# Altium footprint library lianchen_lib.PcbLib: 233 footprints (part 5 of 15)
Each footprint in its own frame and in the unit in brackets; x right, y up, seen from the top. Pads: shape width x height; smd on the part's side, far side on the other; paste and mask are expansions set on the pad; w line width, h text height; cw(c..) or ccw(c..) is an arc to the next point about the centre after c.
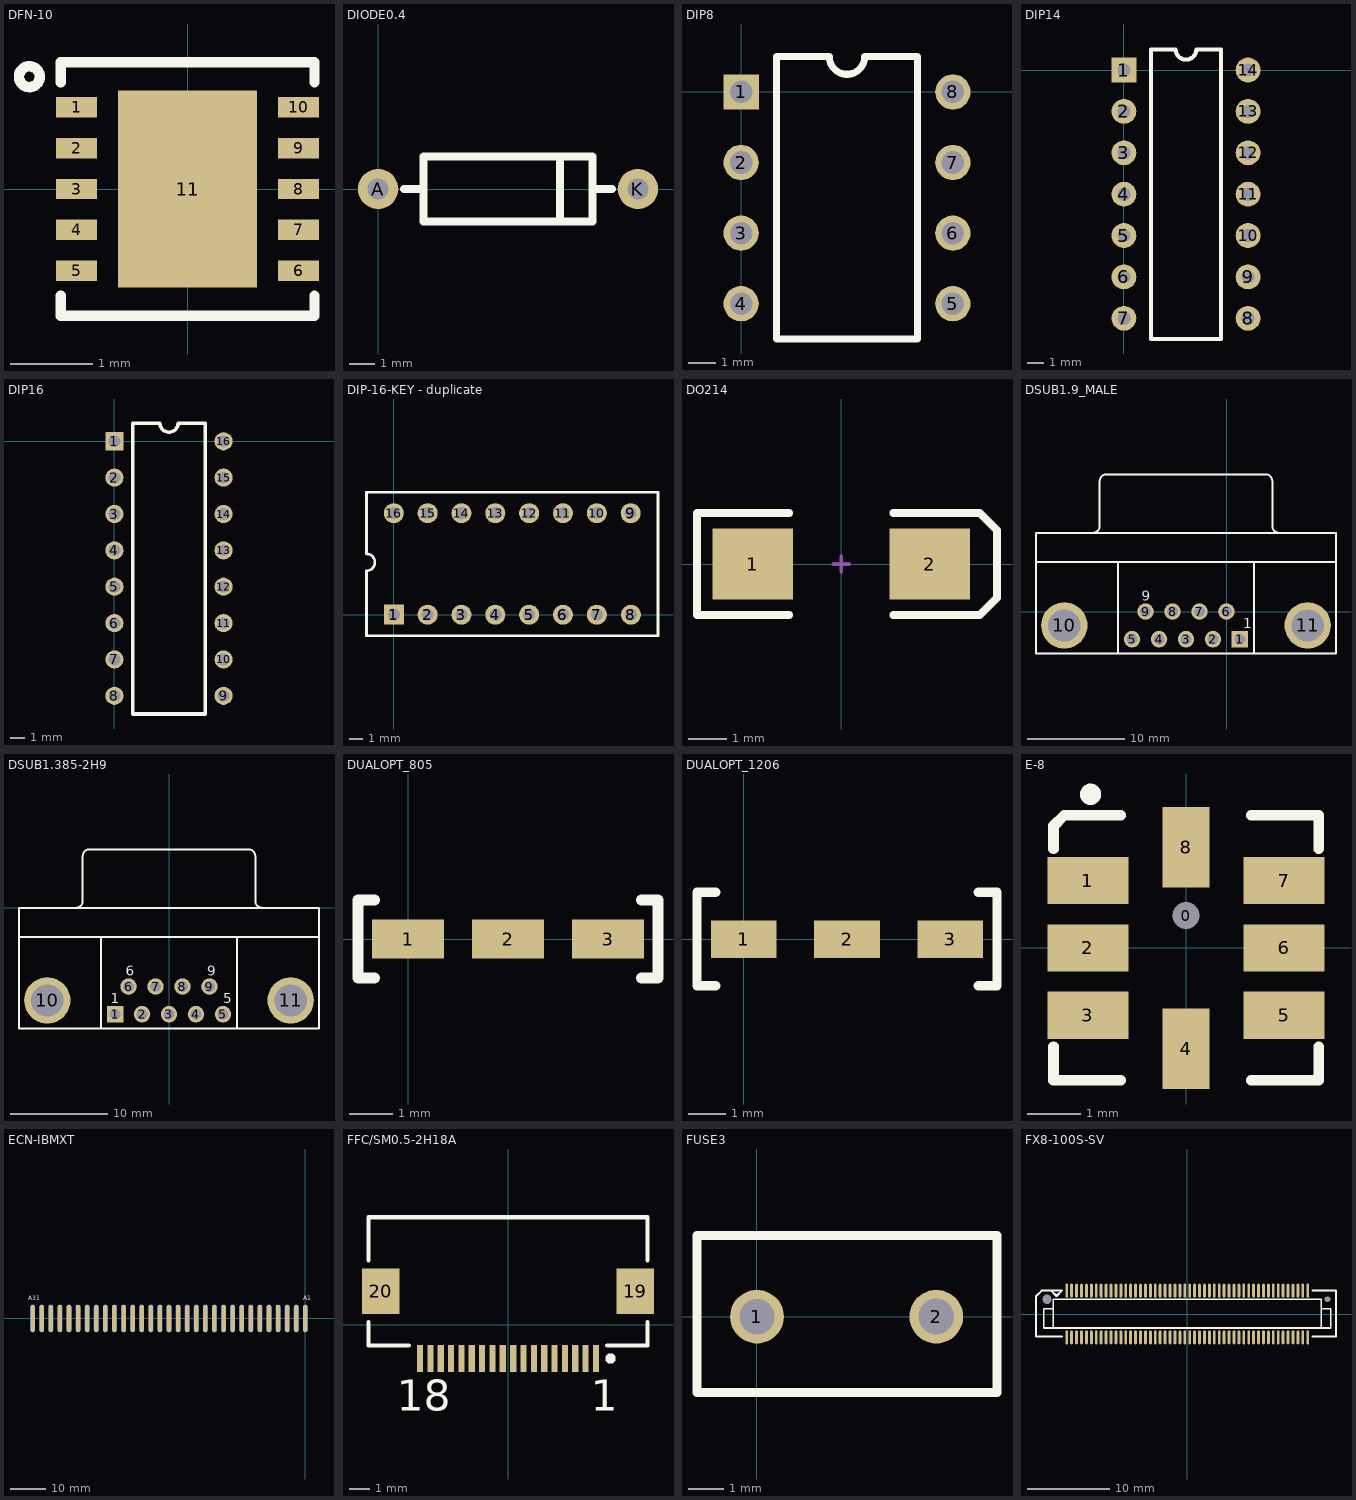
[diagram p4: the footprints below, top view; thin cyan lines are the x and y axes]

## DFN-10 [mm]
height 0.8
pads (11):
  rect 0.5x0.25 smd: 1(-1.355,1) 2(-1.355,0.5) 3(-1.355,0) 4(-1.355,-0.5) 5(-1.355,-1) 6(1.355,-1) 7(1.355,-0.5) 8(1.355,0) 9(1.355,0.5) 10(1.355,1)
  rect 1.7x2.4 smd: 11(0,0)
Top Overlay:
  circle w0.127: c-1.931,1.371 r0.127
  lines w0.127: -1.55,-1.3 -1.55,-1.55 1.55,-1.55 1.55,-1.3 ; -1.55,1.3 -1.55,1.55 1.55,1.55 1.55,1.3

## DIODE0.4 [mil]
pads (2):
  round 62 hole 32: A(0,0) K(400,0)
Top Overlay:
  lines w12: 40,0 70,0 ; 280,-50 280,50 ; 330,0 360,0 ; 70,-50 70,50 330,50 330,-50 70,-50

## DIP8 [mil]
pads (8):
  rect 50x50 hole 32: 1(0,0)
  round 50 hole 32: 2(0,-100) 3(0,-200) 4(0,-300) 5(300,-300) 6(300,-200) 7(300,-100) 8(300,0)
Top Overlay:
  lines w10: 50,-350 250,-350 250,50 175,50 cw(c150,50) 125,50 50,50 50,-350

## DIP14 [mil]
height 200
pads (14):
  rect 60x60 hole 32: 1(0,0)
  round 60 hole 32: 2(0,-100) 3(0,-200) 4(0,-300) 5(0,-400) 6(0,-500) 7(0,-600) 8(300,-600) 9(300,-500) 10(300,-400) 11(300,-300) 12(300,-200) 13(300,-100) 14(300,0)
Top Overlay:
  lines w10: 65,-650 65,50 125,50 ccw(c150,50) 175,50 235,50 235,-650 65,-650

## DIP16 [mil]
pads (16):
  rect 50x50 hole 32: 1(0,0)
  round 50 hole 32: 2(0,-100) 3(0,-200) 4(0,-300) 5(0,-400) 6(0,-500) 7(0,-600) 8(0,-700) 9(300,-700) 10(300,-600) 11(300,-500) 12(300,-400) 13(300,-300) 14(300,-200) 15(300,-100) 16(300,0)
Top Overlay:
  lines w10: 50,-750 50,50 125,50 ccw(c150,50) 175,50 250,50 250,-750 50,-750

## DIP-16-KEY - duplicate [mm]
pads (16):
  rect 1.5x1.5 hole 0.9: 1(-0.011,0.001)
  round 1.5 hole 0.9: 2(2.529,0.001) 3(5.069,0.001) 4(7.609,0.001) 5(10.149,0.001) 6(12.689,0.001) 7(15.229,0.001) 8(17.789,0.001) 9(17.769,7.621) 10(15.229,7.621) 11(12.689,7.621) 12(10.149,7.621) 13(7.609,7.621) 14(5.069,7.621) 15(2.529,7.621) 16(-0.011,7.621)
Top Overlay:
  lines w0.2: -2.061,4.571 cw(c-2.061,3.936) -2.061,3.301 -2.061,-1.589 19.819,-1.589 19.819,9.201 -2.061,9.201 -2.061,4.601
3D body: height 6.35, standoff 0, extent -2.032,-1.524 19.812,9.144
3D body: height 7.11, standoff 0, extent -0.508,4.064 0.508,6.096
3D body: height 6.48, standoff 0, extent -0.508,1.524 0.508,4.064
3D body: height 6.48, standoff 0, extent 4.572,1.524 5.588,4.064
3D body: height 7.11, standoff 0, extent 4.572,4.064 5.588,6.096
3D body: height 6.48, standoff 0, extent 7.112,1.524 8.128,4.064
3D body: height 7.11, standoff 0, extent 7.112,4.064 8.128,6.096
3D body: height 6.48, standoff 0, extent 14.732,1.524 15.748,4.064
3D body: height 7.11, standoff 0, extent 14.732,4.064 15.748,6.096
3D body: height 6.48, standoff 0, extent 2.032,3.556 3.048,6.096
3D body: height 7.11, standoff 0, extent 2.032,1.524 3.048,3.556
3D body: height 6.48, standoff 0, extent 9.652,3.556 10.668,6.096
3D body: height 7.11, standoff 0, extent 9.652,1.524 10.668,3.556
3D body: height 6.48, standoff 0, extent 12.192,3.556 13.208,6.096
3D body: height 7.11, standoff 0, extent 12.192,1.524 13.208,3.556
3D body: height 6.48, standoff 0, extent 17.272,3.556 18.288,6.096
3D body: height 7.11, standoff 0, extent 17.272,1.524 18.288,3.556

## DO214 [mm]
pads (2):
  rect 2.1x1.85 smd: 1(-2.3,0) 2(2.3,0)
Top Overlay:
  lines w0.2: -1.35,-1.325 -3.75,-1.325 -3.75,1.325 -1.35,1.325 ; 1.35,-1.325 3.6,-1.325 4.05,-0.875 4.05,0.875 3.6,1.325 1.35,1.325
Mechanical 1:
  lines w0.1: -0.2,0 0.2,0 ; 0,-0.2 0,0.2

## DSUB1.9_MALE [mm]
pads (11):
  rect 1.69x1.69 hole 1.1: 1(1.382,-2.843)
  round 1.69 hole 1.1: 2(-1.388,-2.843) 3(-4.158,-2.843) 4(-6.928,-2.843) 5(-9.698,-2.843) 6(-0.003,-0.003) 7(-2.773,-0.003) 8(-5.543,-0.003) 9(-8.313,-0.003)
  round 4.76 hole 3.3: 10(-16.653,-1.423) 11(8.337,-1.423)
Top Overlay:
  lines w0.2: -19.558,5.077 11.242,5.077 ; -13.718,8.082 ccw(c-13.718,8.777) -13.023,8.777 -13.023,13.377 ; -13.018,13.382 cw(c-12.323,13.382) -12.323,14.077 4.007,14.077 cw(c4.007,13.382) 4.702,13.382 ; -11.158,-4.323 -11.158,5.077 ; 2.842,-4.323 2.842,5.077 ; 4.707,13.377 4.707,8.777 ccw(c5.402,8.777) 5.402,8.082 ; -19.558,-4.323 -19.558,8.077 11.242,8.077 11.242,-4.323 -19.558,-4.323
  text "1" at 1.702,-1.702 h1
  text "9" at -8.712,1.092 h1

## DSUB1.385-2H9 [mm]
pads (11):
  rect 1.69x1.69 hole 1.1: 1(-5.54,-10.92)
  round 1.69 hole 1.1: 2(-2.77,-10.92) 3(0,-10.92) 4(2.77,-10.92) 5(5.54,-10.92) 6(-4.155,-8.08) 7(-1.385,-8.08) 8(1.385,-8.08) 9(4.155,-8.08)
  round 4.76 hole 3.3: 10(-12.495,-9.5) 11(12.495,-9.5)
Top Overlay:
  lines w0.2: -15.4,-3 15.4,-3 ; -9.56,0.005 ccw(c-9.56,0.7) -8.865,0.7 -8.865,5.3 ; -8.86,5.305 cw(c-8.165,5.305) -8.165,6 8.165,6 cw(c8.165,5.305) 8.86,5.305 ; -7,-12.4 -7,-3 ; 7,-12.4 7,-3 ; 8.865,5.3 8.865,0.7 ccw(c9.56,0.7) 9.56,0.005 ; -15.4,-12.4 15.4,-12.4 15.4,0 -15.4,0 -15.4,-12.4
  text "6" at -4.445,-6.985 h1
  text "9" at 3.937,-6.985 h1
  text "5" at 5.588,-9.779 h1
  text "1" at -5.969,-9.779 h1

## DUALOPT_805 [mil]
pads (3):
  rect 65x35 smd: 1(0,0) 2(90,0) 3(180,0)
Top Overlay:
  lines w10: -30,-35 -45,-35 -45,35 -30,35 ; 210,-35 225,-35 225,35 210,35

## DUALOPT_1206 [mil]
pads (3):
  rect 70x40 smd: 1(0,0) 2(110,0) 3(220,0)
Top Overlay:
  lines w10: -30,-50 -50,-50 -50,50 -30,50 ; 250,-50 270,-50 270,50 250,50

## E-8 [mil]
pads (9):
  round 15 hole 20 unplated: 0(-0.02,23.98)
  rect 60x35 smd: 1(-72.85,49.98) 2(-72.85,-0.02) 3(-72.85,-50.02) 5(72.82,-50.02) 6(72.82,-0.02) 7(72.82,49.98)
  rect 35x60 smd: 4(-0.02,-74.82) 8(-0.02,74.79)
Top Overlay:
  circle w7.87: c-70.89,114.16 r3.94
  lines w7.87: -98.44,-73.44 -98.44,-98.44 -48.44,-98.44 ; -98.44,73.56 -98.44,90.69 ; -90.57,98.56 -48.44,98.56 ; 48.56,-98.44 98.56,-98.44 98.56,-73.44 ; 48.56,98.56 98.56,98.56 98.56,73.56
  lines w8: -98.44,90.69 -90.57,98.56
3D body: height 80, standoff 0, extent -95,-95 95,95

## ECN-IBMXT [mm]
pads (62):
  oval 1.27x7.62 smd: A1(0,0) A2(-2.54,0) A3(-5.08,0) A4(-7.62,0) A5(-10.16,0) A6(-12.7,0) A7(-15.24,0) A8(-17.78,0) A9(-20.32,0) A10(-22.86,0) A11(-25.4,0) A12(-27.94,0) A13(-30.48,0) A14(-33.02,0) A15(-35.56,0) A16(-38.1,0) A17(-40.64,0) A18(-43.18,0) A19(-45.72,0) A20(-48.26,0) A21(-50.8,0) A22(-53.34,0) A23(-55.88,0) A24(-58.42,0) A25(-60.96,0) A26(-63.5,0) A27(-66.04,0) A28(-68.58,0) A29(-71.12,0) A30(-73.66,0) A31(-76.2,0)
  oval 1.27x7.62 smd far side: B1(0,0) B2(-2.54,0) B3(-5.08,0) B4(-7.62,0) B5(-10.16,0) B6(-12.7,0) B7(-15.24,0) B8(-17.78,0) B9(-20.32,0) B10(-22.86,0) B11(-25.4,0) B12(-27.94,0) B13(-30.48,0) B14(-33.02,0) B15(-35.56,0) B16(-38.1,0) B17(-40.64,0) B18(-43.18,0) B19(-45.72,0) B20(-48.26,0) B21(-50.8,0) B22(-53.34,0) B23(-55.88,0) B24(-58.42,0) B25(-60.96,0) B26(-63.5,0) B27(-66.04,0) B28(-68.58,0) B29(-71.12,0) B30(-73.66,0) B31(-76.2,0)
Top Overlay:
  text "A1" at -0.635,5.08 h1.22
  text "A31" at -77.47,5.08 h1.22
Bottom Overlay:
  text "B31" at -74.93,5.08 h1.22
  text "B1" at 0.635,5.08 h1.22

## FFC/SM0.5-2H18A [mm]
pads (20):
  rect 0.3x1.3 smd: 1(4.25,-1.625) 2(3.75,-1.625) 3(3.25,-1.625) 4(2.75,-1.625) 5(2.25,-1.625) 6(1.75,-1.625) 7(1.25,-1.625) 8(0.75,-1.625) 9(0.25,-1.625) 10(-0.25,-1.625) 11(-0.75,-1.625) 12(-1.25,-1.625) 13(-1.75,-1.625) 14(-2.25,-1.625) 15(-2.75,-1.625) 16(-3.25,-1.625) 17(-3.75,-1.625) 18(-4.25,-1.625)
  rect 1.8x2.2 smd: 19(6.15,1.625) 20(-6.15,1.625)
Top Overlay:
  circle w0.25: c4.95,-1.625 r0.125
  lines w0.2: -6.75,0.125 -6.75,-1 -4.8,-1 ; -6.75,3.125 -6.75,5.2 6.75,5.2 6.75,3.125 ; 4.8,-1 6.75,-1 6.75,0.125
  text "1" at 4,-4.15 h1.5
  text "18" at -5.375,-4.15 h1.5

## FUSE3 [mil]
height 2
pads (2):
  round 60 hole 39.37: 1(0,0)
  round 60 hole 40: 2(200,0)
Top Overlay:
  lines w10: -66.93,-84.65 -66.93,90.55 267.72,90.55 267.72,-84.65 -66.93,-84.65

## FX8-100S-SV [mm]
pads (102):
  oval 0.35x1.7 smd: 1(-14.7,2.85) 2(-14.7,-2.85) 3(-14.1,2.85) 4(-14.1,-2.85) 5(-13.5,2.85) 6(-13.5,-2.85) 7(-12.9,2.85) 8(-12.9,-2.85) 9(-12.3,2.85) 10(-12.3,-2.85) 11(-11.7,2.85) 12(-11.7,-2.85) 13(-11.1,2.85) 14(-11.1,-2.85) 15(-10.5,2.85) 16(-10.5,-2.85) 17(-9.9,2.85) 18(-9.9,-2.85) 19(-9.3,2.85) 20(-9.3,-2.85) 21(-8.7,2.85) 22(-8.7,-2.85) 23(-8.1,2.85) 24(-8.1,-2.85) 25(-7.5,2.85) 26(-7.5,-2.85) 27(-6.9,2.85) 28(-6.9,-2.85) 29(-6.3,2.85) 30(-6.3,-2.85) 31(-5.7,2.85) 32(-5.7,-2.85) 33(-5.1,2.85) 34(-5.1,-2.85) 35(-4.5,2.85) 36(-4.5,-2.85) 37(-3.9,2.85) 38(-3.9,-2.85) 39(-3.3,2.85) 40(-3.3,-2.85) 41(-2.7,2.85) 42(-2.7,-2.85) 43(-2.1,2.85) 44(-2.1,-2.85) 45(-1.5,2.85) 46(-1.5,-2.85) 47(-0.9,2.85) 48(-0.9,-2.85) 49(-0.3,2.85) 50(-0.3,-2.85) 51(0.3,2.85) 52(0.3,-2.85) 53(0.9,2.85) 54(0.9,-2.85) 55(1.5,2.85) 56(1.5,-2.85) 57(2.1,2.85) 58(2.1,-2.85) 59(2.7,2.85) 60(2.7,-2.85) 61(3.3,2.85) 62(3.3,-2.85) 63(3.9,2.85) 64(3.9,-2.85) 65(4.5,2.85) 66(4.5,-2.85) 67(5.1,2.85) 68(5.1,-2.85) 69(5.7,2.85) 70(5.7,-2.85) 71(6.3,2.85) 72(6.3,-2.85) 73(6.9,2.85) 74(6.9,-2.85) 75(7.5,2.85) 76(7.5,-2.85) 77(8.1,2.85) 78(8.1,-2.85) 79(8.7,2.85) 80(8.7,-2.85) 81(9.3,2.85) 82(9.3,-2.85) 83(9.9,2.85) 84(9.9,-2.85) 85(10.5,2.85) 86(10.5,-2.85) 87(11.1,2.85) 88(11.1,-2.85) 89(11.7,2.85) 90(11.7,-2.85) 91(12.3,2.85) 92(12.3,-2.85) 93(12.9,2.85) 94(12.9,-2.85) 95(13.5,2.85) 96(13.5,-2.85) 97(14.1,2.85) 98(14.1,-2.85) 99(14.7,2.85) 100(14.7,-2.85)
  round 1 hole 1.1 unplated: M1(-17.1,1.8)
  round 0.6 hole 0.7 unplated: M2(17.1,1.8)
Top Overlay:
  lines w0.2: -16.35,0.65 -17.5,0.65 -17.5,-1.7 -16.35,-1.7 ; 16.35,0.65 17.5,0.65 17.5,-1.7 16.35,-1.7 ; -16.35,-1.7 16.35,-1.7 ; -16.35,-1.7 -16.35,1.8 16.35,1.8 16.35,-1.7
  lines w0.25: -16.6,2.85 -15.95,2.2 -15.3,2.85 -17.75,2.85 -18.45,2.15 -18.45,-2.75 -15.3,-2.75 ; 15.3,-2.75 18.15,-2.75 18.15,2.85 15.3,2.85